# Altium schematic symbol library AC0805JR-071K5L.SchLib: 1 symbol
Pins are listed as number, name and electrical type; pins without a type are passive.

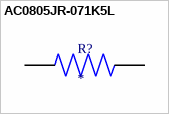
[diagram p0: symbol AC0805JR-071K5L]

## AC0805JR-071K5L
designator R?
RES SMD 1.5K OHM 5% 1/8W 0805; MP: AC0805JR-071K5L; Package: None; Price: None; Value: *; Availability: Unavailable
footprint RESC2012X60N
pins: 1, 2